# EAGLE library part HIROSE-MICRO-SD (library hirosemicrosd)
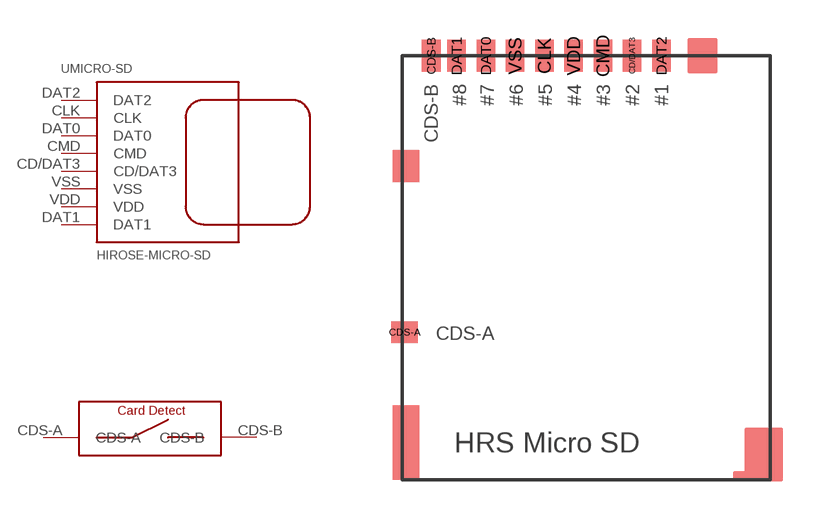
[diagram p0: symbol with the pads of HIROSE-MICROSD-V2; footprint HIROSE-MICROSD-V2]

Designator prefix -; gates MICRO-SD=HIROSE-MICRO-SD CD=MICRO-SD-CDS

## HIROSE-MICRO-SD  [HIROSE-MICROSD-V2]
CD/DAT3  MICRO-SD:CD/DAT3
CDS-A  CD:CDS-A
CDS-B  CD:CDS-B
CLK  MICRO-SD:CLK
CMD  MICRO-SD:CMD
DAT0  MICRO-SD:DAT0
DAT1  MICRO-SD:DAT1
DAT2  MICRO-SD:DAT2
VDD  MICRO-SD:VDD  pwr
VSS  MICRO-SD:VSS  pwr

## Footprint HIROSE-MICROSD-V2 (pad centres in mm)
smd 0.7 x 1.2: CD/DAT3 8.65,15.95; CDS-B 1.1,15.95; CLK 5.35,15.95; CMD 7.55,15.95; DAT0 3.15,15.95; DAT1 2.05,15.95; DAT2 9.75,15.95; VDD 6.45,15.95; VSS 4.25,15.95
smd 1 x 0.8: CDS-A 0.1,5.55